# EAGLE library part SHPCIE100 (library circuit_tree)
IC
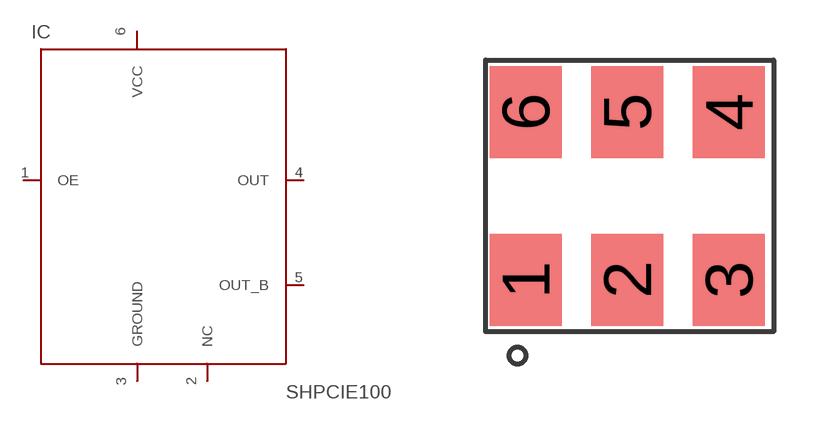
[diagram p13: symbol with the pads of SHPCIE100; footprint SHPCIE100]

Designator prefix IC

## SHPCIE100  [SHPCIE100]
1  OE  pas
2  NC  pas
3  GROUND  pas
4  OUT  pas
5  OUT_B  pas
6  VCC  pas

## Footprint SHPCIE100 (pad centres in mm)
smd 1.8 x 2.3: 1 0,0; 2 2.54,0; 3 5.08,0; 4 5.08,4.2; 5 2.54,4.2; 6 0,4.2